# EAGLE library part LM5107 (library national-semi)
Half Bridge Gate Driver 100V / 1.4A Peak
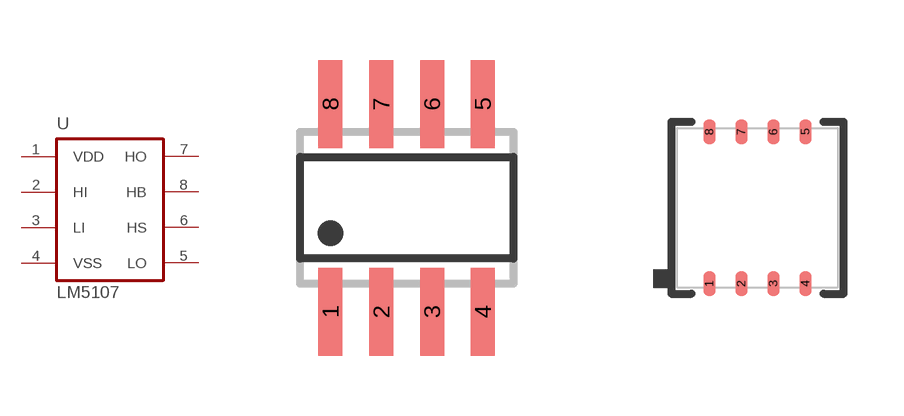
[diagram p10: symbol with the pads of SO08; footprints SO08, LLP8-4X4]

Designator prefix U

## LM5107MA  [SO08]
1  VDD  pwr
2  HI  in
3  LI  in
4  VSS  pwr
5  LO  out
6  HS  out
7  HO  out
8  HB  out

## LM5107SD  [LLP8-4X4]
Pads as for SO08

## Footprint SO08 (pad centres in mm)
SMALL OUTLINE INTEGRATED CIRCUIT body 3.9 mm/JEDEC MS-012AA
smd 0.6 x 2.2: 1 -1.905,-2.6; 2 -0.635,-2.6; 3 0.635,-2.6; 4 1.905,-2.6; 5 1.905,2.6; 6 0.635,2.6; 7 -0.635,2.6; 8 -1.905,2.6

## Footprint LLP8-4X4 (pad centres in mm)
8-Pin LLP (4x4mm body) NS Package Number SDC08A
smd 0.3 x 0.6: 1 -1.2,-1.9; 2 -0.4,-1.9; 3 0.4,-1.9; 4 1.2,-1.9; 5 1.2,1.9; 6 0.4,1.9; 7 -0.4,1.9; 8 -1.2,1.9